# Altium schematic symbol library Driver_FET.SchLib: 216 symbols (part 1 of 3)
Pins are listed as number, name and electrical type; pins without a type are passive.

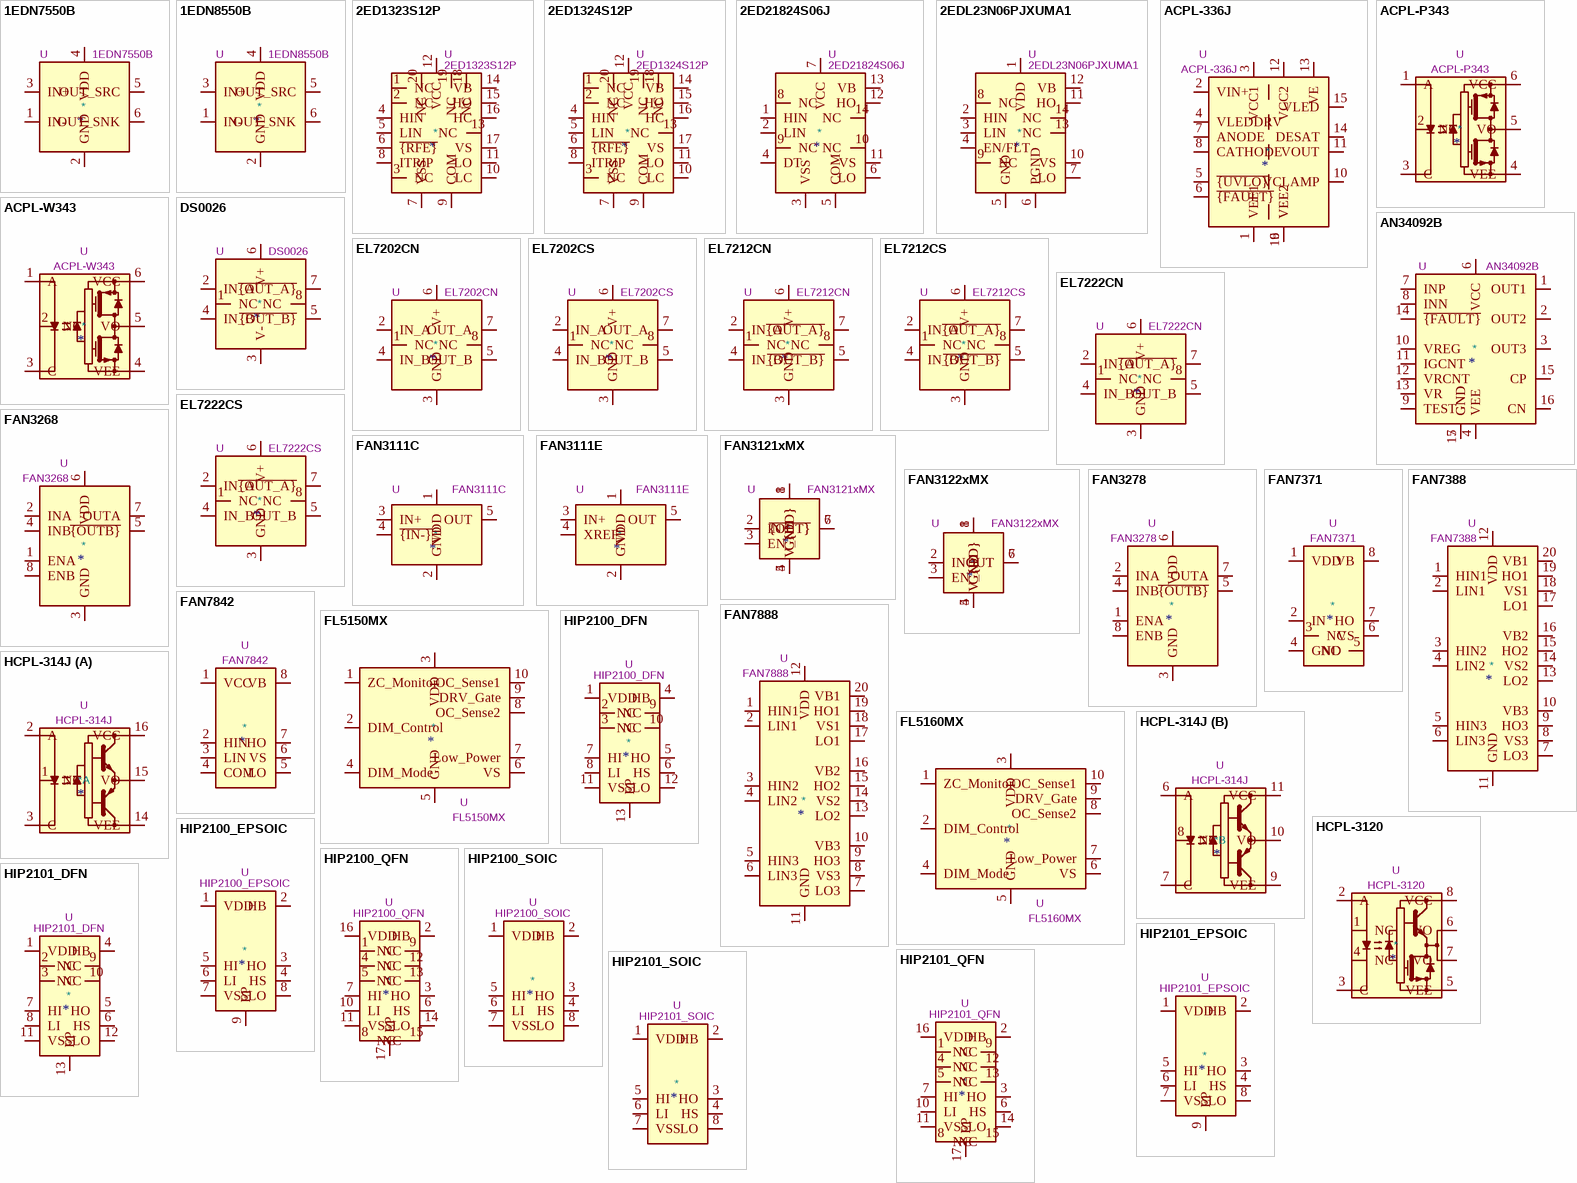
[diagram p0: symbols 1EDN7550B to HIP2101_SOIC]

## 1EDN7550B
designator *  value 1EDN7550B  Reference: U
Single-Channel EiceDRIVER With True Differential Inputs, 4V UVLO, +4/-8A, SOT-23-6; ki_keywords: Driver, Dual MOSFET; ki_fp_filters: SOT?23*; Footprint: Package_TO_SOT_SMD:SOT-23-6; Datasheet: https://www.infineon.com/dgdl/Infineon-1EDN7550B-DS-v02_00-EN.pdf?fileId=5546d46262b31d2e01635d9799ef264f; Description_: Single-Channel EiceDRIVER With True Differential Inputs, 4V UVLO, +4/-8A, SOT-23-6
pins: 1 IN-, 2 GND, 3 IN+, 4 VDD, 5 OUT_SRC, 6 OUT_SNK

## 1EDN8550B
designator *  value 1EDN8550B  Reference: U
Single-Channel EiceDRIVER With True Differential Inputs, 8V UVLO, +4/-8A, SOT-23-6; ki_keywords: Driver, Dual MOSFET; ki_fp_filters: SOT?23*; Footprint: Package_TO_SOT_SMD:SOT-23-6; Datasheet: https://www.infineon.com/dgdl/Infineon-1EDN7550B-DS-v02_00-EN.pdf?fileId=5546d46262b31d2e01635d9799ef264f; Description_: Single-Channel EiceDRIVER With True Differential Inputs, 8V UVLO, +4/-8A, SOT-23-6
pins: 1 IN-, 2 GND, 3 IN+, 4 VDD, 5 OUT_SRC, 6 OUT_SNK

## 2ED1323S12P
designator *  value 2ED1323S12P  Reference: U
1200V Half Bridge Gate Driver with active Miller clamp, OCP, SCC, Bootstrap Diode, ±2.3A drive current, PG-DSO-20-U03; ki_keywords: Gate Driver MOSFET IGBT SiC; ki_fp_filters: Infineon*PG?DSO?20?U03*7.5x12.8mm*; Footprint: Package_SO:Infineon_PG-DSO-20-U03_7.5x12.8mm; Datasheet: https://www.infineon.com/dgdl/Infineon-2ED1323S12P_2ED1324S12P-DataSheet-v01_01-EN.pdf?fileId=8ac78c8c869190210186e92f0f506d0c; Description_: 1200V Half Bridge Gate Driver with active Miller clamp, OCP, SCC, Bootstrap Diode, ±2.3A drive current, PG-DSO-20-U03
pins: 1 NC, 2 NC, 3 NC, 4 HIN, 5 LIN, 6 ~{{RFE}}, 7 VSS, 8 ITRIP, 9 COM, 10 LC, 11 LO, 12 VCC, 13 NC, 14 VB, 15 HO, 16 HC, 17 VS, 18 NC, 19 NC, 20 NC

## 2ED1324S12P
designator *  value 2ED1324S12P  Reference: U
1200V Half Bridge Gate Driver with active Miller clamp, OCP, SCC , 380ns integrated deadtime, Bootstrap Diode, ±2.3A drive current, PG-DSO-20-U03; ki_keywords: Gate Driver MOSFET IGBT SiC; ki_fp_filters: Infineon*PG?DSO?20?U03*7.5x12.8mm*; Footprint: Package_SO:Infineon_PG-DSO-20-U03_7.5x12.8mm; Datasheet: https://www.infineon.com/dgdl/Infineon-2ED1323S12P_2ED1324S12P-DataSheet-v01_01-EN.pdf?fileId=8ac78c8c869190210186e92f0f506d0c; Description_: 1200V Half Bridge Gate Driver with active Miller clamp, OCP, SCC , 380ns integrated deadtime, Bootstrap Diode, ±2.3A drive current, PG-DSO-20-U03
pins: 1 NC, 2 NC, 3 NC, 4 HIN, 5 LIN, 6 ~{{RFE}}, 7 VSS, 8 ITRIP, 9 COM, 10 LC, 11 LO, 12 VCC, 13 NC, 14 VB, 15 HO, 16 HC, 17 VS, 18 NC, 19 NC, 20 NC

## 2ED21824S06J
designator *  value 2ED21824S06J  Reference: U
650V Half Bridge Gate Driver with Integrated Bootstrap Diode, 2.5A drive current, SOIC-14; ki_keywords: Gate Driver MOSFET IGBT; ki_fp_filters: SOIC*3.9x8.7mm*P1.27mm*; Footprint: Package_SO:SOIC-14_3.9x8.7mm_P1.27mm; Datasheet: https://www.infineon.com/dgdl/Infineon-2ED2182-4-S06F-J-DataSheet-v02_10-EN.pdf?fileId=5546d4626cb27db2016cb8d7368a29e3; Description_: 650V Half Bridge Gate Driver with Integrated Bootstrap Diode, 2.5A drive current, SOIC-14
pins: 1 HIN, 2 LIN, 3 VSS, 4 DT, 5 COM, 6 LO, 7 VCC, 8 NC, 9 NC, 10 NC, 11 VS, 12 HO, 13 VB, 14 NC

## 2EDL23N06PJXUMA1
designator *  value 2EDL23N06PJXUMA1  Reference: U
600V Half Bridge Gate Driver with OCP and Integrated Bootstrap Diode, +1.8A/-2.5A drive current, SOIC-14; ki_keywords: Gate Driver MOSFET IGBT; ki_fp_filters: SOIC*3.9x8.7mm*P1.27mm*; Footprint: Package_SO:SOIC-14_3.9x8.7mm_P1.27mm; Datasheet: https://www.infineon.com/dgdl/Infineon-2EDL23x06xx-DS-v02_01-EN.pdf?fileId=5546d46146d18cb4014738a20c5236f0; Description_: 600V Half Bridge Gate Driver with OCP and Integrated Bootstrap Diode, +1.8A/-2.5A drive current, SOIC-14
pins: 1 VDD, 2 HIN, 3 LIN, 4 EN/FLT, 5 GND, 6 PGND, 7 LO, 8 NC, 9 NC, 10 VS, 11 HO, 12 VB, 13 NC, 14 NC

## ACPL-336J
designator *  value ACPL-336J  Reference: U
2.5A Gate Drive Optocoupler with Integrated LED Driver, Active Miller Clamp, DESAT Detection, and Fault & UVLO Status Feedback, SOIC-16; ki_keywords: Gate Driver IGBT; ki_fp_filters: SOIC*7.5x10.3*P1.27mm*; Footprint: Package_SO:SOIC-16W_7.5x10.3mm_P1.27mm; Datasheet: https://docs.broadcom.com/docs/AV02-4391EN; Description_: 2.5A Gate Drive Optocoupler with Integrated LED Driver, Active Miller Clamp, DESAT Detection, and Fault & UVLO Status Feedback, SOIC-16
pins: 1 VEE1, 2 VIN+, 3 VCC1, 4 VLEDDRV, 5 ~{{UVLO}}, 6 ~{{FAULT}}, 7 ANODE, 8 CATHODE, 9 VEE2, 10 VCLAMP, 11 VOUT, 12 VCC2, 13 VE, 14 DESAT, 15 VLED, 16 VEE2

## ACPL-P343
designator *  value ACPL-P343  Reference: U
Gate Drive Optocoupler, Output Current 4.0/4.0A, Propagation Delay 200ns, SSO-6; ki_keywords: MOSFET Driver IGBT Driver Optocoupler; ki_fp_filters: SSO*6.8x4.6mm*P1.27mm*Clearance7mm*; Footprint: Package_SO:SSO-6_6.8x4.6mm_P1.27mm_Clearance7mm; Datasheet: https://docs.broadcom.com/docs/AV02-2928EN; Description_: Gate Drive Optocoupler, Output Current 4.0/4.0A, Propagation Delay 200ns, SSO-6
pins: 1 A, 2 NC, 3 C, 4 VEE, 5 VO, 6 VCC

## ACPL-W343
designator *  value ACPL-W343  Reference: U
Gate Drive Optocoupler, Output Current 4.0/4.0A, Propagation Delay 200ns, SSO-6; ki_keywords: MOSFET Driver IGBT Driver Optocoupler; ki_fp_filters: SSO*6.8x4.6mm*P1.27mm*Clearance8mm*; Footprint: Package_SO:SSO-6_6.8x4.6mm_P1.27mm_Clearance8mm; Datasheet: http://www.avagotech.com/docs/AV02-2928EN; Description_: Gate Drive Optocoupler, Output Current 4.0/4.0A, Propagation Delay 200ns, SSO-6
pins: 1 A, 2 NC, 3 C, 4 VEE, 5 VO, 6 VCC

## AN34092B
designator *  value AN34092B  Reference: U
Single-Channel GaN-Tr High-Speed Gate Driver, Output Current 6.0A, 24V, -5V Negative Gate Voltage, HQFN-16; ki_keywords: GaN Gate Driver; ki_fp_filters: Panasonic*HQFN*1EP*4x4mm*P0.65mm*EP2.9x2.9mm*; Footprint: Package_DFN_QFN:Panasonic_HQFN-16-1EP_4x4mm_P0.65mm_EP2.9x2.9mm; Datasheet: https://industrial.panasonic.com/content/data/SC/ds/ds4/AN34092B_E.pdf; Description_: Single-Channel GaN-Tr High-Speed Gate Driver, Output Current 6.0A, 24V, -5V Negative Gate Voltage, HQFN-16
pins: 1 OUT1, 2 OUT2, 3 OUT3, 4 VEE, 5 GND, 6 VCC, 7 INP, 8 INN, 9 TEST, 10 VREG, 11 IGCNT, 12 VRCNT, 13 VR, 14 ~{{FAULT}}, 15 CP, 16 CN, 17 GND

## DS0026
designator *  value DS0026  Reference: U
Dual High-Speed MOS Driver, 10..20V supply voltage, 1.5A peak output current, TTL compatible inputs, DIP-8 / SOIC-8 / MSOP-8; ki_keywords: clock-driver clock-buffer Obsolete; ki_fp_filters: DIP?8?W7.62mm* *SOIC*3.9x4.9mm*P1.27mm* *MSOP*3x3mm*P0.65mm*; Datasheet: https://media.digikey.com/pdf/Data%20Sheets/National%20Semiconductor%20PDFs/DS0026.pdf; Description_: Dual High-Speed MOS Driver, 10..20V supply voltage, 1.5A peak output current, TTL compatible inputs, DIP-8 / SOIC-8 / MSOP-8
pins: 1 NC, 2 IN_A, 3 V-, 4 IN_B, 5 ~{{OUT_B}}, 6 V+, 7 ~{{OUT_A}}, 8 NC

## EL7202CN
designator *  value EL7202CN  Reference: U
High Speed, Dual Channel Power MOSFET Driver, 4.5..15V supply, I(PK)=2A, non-inverting drivers, DIP-8; ki_keywords: Intersil Renesas clock-driver clock-buffer Obsolete; ki_fp_filters: DIP?8?W7.62mm*; Footprint: Package_DIP:DIP-8_W7.62mm; Datasheet: https://www.mouser.com/catalog/specsheets/intersil_fn7282.pdf; Description_: High Speed, Dual Channel Power MOSFET Driver, 4.5..15V supply, I(PK)=2A, non-inverting drivers, DIP-8
pins: 1 NC, 2 IN_A, 3 GND, 4 IN_B, 5 OUT_B, 6 V+, 7 OUT_A, 8 NC

## EL7202CS
designator *  value EL7202CS  Reference: U
High Speed, Dual Channel Power MOSFET Driver, 4.5..15V supply, I(PK)=2A, non-inverting drivers, SOIC-8; ki_keywords: Intersil Renesas clock-driver clock-buffer; ki_fp_filters: *SOIC*3.9*4.*P1.27mm*; Footprint: Package_SO:SOIC-8_3.9x4.9mm_P1.27mm; Datasheet: https://www.mouser.com/catalog/specsheets/intersil_fn7282.pdf; Description_: High Speed, Dual Channel Power MOSFET Driver, 4.5..15V supply, I(PK)=2A, non-inverting drivers, SOIC-8
pins: 1 NC, 2 IN_A, 3 GND, 4 IN_B, 5 OUT_B, 6 V+, 7 OUT_A, 8 NC

## EL7212CN
designator *  value EL7212CN  Reference: U
High Speed, Dual Channel Power MOSFET Driver, 4.5..15V supply, I(PK)=2A, inverting drivers, DIP-8; ki_keywords: Intersil Renesas DS0026 clock-driver clock-buffer Obsolete; ki_fp_filters: DIP?8?W7.62mm*; Footprint: Package_DIP:DIP-8_W7.62mm; Datasheet: https://www.mouser.com/catalog/specsheets/intersil_fn7282.pdf; Description_: High Speed, Dual Channel Power MOSFET Driver, 4.5..15V supply, I(PK)=2A, inverting drivers, DIP-8
pins: 1 NC, 2 IN_A, 3 GND, 4 IN_B, 5 ~{{OUT_B}}, 6 V+, 7 ~{{OUT_A}}, 8 NC

## EL7212CS
designator *  value EL7212CS  Reference: U
High Speed, Dual Channel Power MOSFET Driver, 4.5..15V supply, I(PK)=2A, inverting drivers, SOIC-8; ki_keywords: Intersil Renesas DS0026 clock-driver clock-buffer; ki_fp_filters: *SOIC*3.9*4.*P1.27mm*; Footprint: Package_SO:SOIC-8_3.9x4.9mm_P1.27mm; Datasheet: https://www.mouser.com/catalog/specsheets/intersil_fn7282.pdf; Description_: High Speed, Dual Channel Power MOSFET Driver, 4.5..15V supply, I(PK)=2A, inverting drivers, SOIC-8
pins: 1 NC, 2 IN_A, 3 GND, 4 IN_B, 5 ~{{OUT_B}}, 6 V+, 7 ~{{OUT_A}}, 8 NC

## EL7222CN
designator *  value EL7222CN  Reference: U
High Speed, Dual Channel Power MOSFET Driver, 4.5..15V supply, I(PK)=2A, complementary drivers, DIP-8; ki_keywords: Intersil Renesas clock-driver clock-buffer Obsolete; ki_fp_filters: DIP?8?W7.62mm*; Footprint: Package_DIP:DIP-8_W7.62mm; Datasheet: https://www.mouser.com/catalog/specsheets/intersil_fn7282.pdf; Description_: High Speed, Dual Channel Power MOSFET Driver, 4.5..15V supply, I(PK)=2A, complementary drivers, DIP-8
pins: 1 NC, 2 IN_A, 3 GND, 4 IN_B, 5 OUT_B, 6 V+, 7 ~{{OUT_A}}, 8 NC

## EL7222CS
designator *  value EL7222CS  Reference: U
High Speed, Dual Channel Power MOSFET Driver, 4.5..15V supply, I(PK)=2A, complementary drivers, SOIC-8; ki_keywords: Intersil Renesas clock-driver clock-buffer; ki_fp_filters: *SOIC*3.9*4.*P1.27mm*; Footprint: Package_SO:SOIC-8_3.9x4.9mm_P1.27mm; Datasheet: https://www.mouser.com/catalog/specsheets/intersil_fn7282.pdf; Description_: High Speed, Dual Channel Power MOSFET Driver, 4.5..15V supply, I(PK)=2A, complementary drivers, SOIC-8
pins: 1 NC, 2 IN_A, 3 GND, 4 IN_B, 5 OUT_B, 6 V+, 7 ~{{OUT_A}}, 8 NC

## FAN3111C
designator *  value FAN3111C  Reference: U
High Speed Low Side MOSFET Gate Driver with CMOS inverting and non-inverting inputs, 4.5-18 V, 1.0 A, SOT-23-5; ki_fp_filters: SOT?23?5*; Footprint: Package_TO_SOT_SMD:SOT-23-5; Datasheet: https://www.onsemi.com/pdf/datasheet/fan3111c-d.pdf; Description_: High Speed Low Side MOSFET Gate Driver with CMOS inverting and non-inverting inputs, 4.5-18 V, 1.0 A, SOT-23-5; ki_keywords: MOSFET gate driver
pins: 1 VDD, 2 GND, 3 IN+, 4 ~{{IN-}}, 5 OUT

## FAN3111E
designator *  value FAN3111E  Reference: U
High Speed Low Side MOSFET Gate Driver with logic voltage reference input, 4.5-18 V, 1.0 A, SOT-23-5; ki_fp_filters: SOT?23?5*; Footprint: Package_TO_SOT_SMD:SOT-23-5; Datasheet: https://www.onsemi.com/pdf/datasheet/fan3111c-d.pdf; Description_: High Speed Low Side MOSFET Gate Driver with logic voltage reference input, 4.5-18 V, 1.0 A, SOT-23-5; ki_keywords: MOSFET gate driver
pins: 1 VDD, 2 GND, 3 IN+, 4 XREF, 5 OUT

## FAN3121xMX
designator *  value FAN3121xMX  Reference: U
High-speed low-side gate driver, single inverting output, 4.5..18V supply, 9.7A sink, 7.1A source, SOIC-8; ki_keywords: onsemi; ki_fp_filters: *SO*3.9x4.9mm*P1.27mm*; Footprint: Package_SO:SOIC-8_3.9x4.9mm_P1.27mm; Datasheet: https://www.onsemi.com/download/data-sheet/pdf/fan3121-d.pdf; Description_: High-speed low-side gate driver, single inverting output, 4.5..18V supply, 9.7A sink, 7.1A source, SOIC-8
pins: 1 V_{DD}, 2 IN, 3 EN, 4 GND, 5 GND, 6 ~{{OUT}}, 7 ~{{OUT}}, 8 V_{DD}

## FAN3122xMX
designator *  value FAN3122xMX  Reference: U
High-speed low-side gate driver, single non-inverting output, 4.5..18V supply, 9.7A sink, 7.1A source, SOIC-8; ki_keywords: onsemi; ki_fp_filters: *SO*3.9x4.9mm*P1.27mm*; Footprint: Package_SO:SOIC-8_3.9x4.9mm_P1.27mm; Datasheet: https://www.onsemi.com/download/data-sheet/pdf/fan3121-d.pdf; Description_: High-speed low-side gate driver, single non-inverting output, 4.5..18V supply, 9.7A sink, 7.1A source, SOIC-8
pins: 1 V_{DD}, 2 IN, 3 EN, 4 GND, 5 GND, 6 OUT, 7 OUT, 8 V_{DD}

## FAN3268
designator *  value FAN3268  Reference: U
Low-Voltage 18V PMOS-NMOS Bridge Driver, SOIC-8; ki_keywords: Driver MOSFET; ki_fp_filters: *SOIC*3.9x4.9mm*P1.27mm*; Footprint: Package_SO:SOIC-8_3.9x4.9mm_P1.27mm; Datasheet: http://www.onsemi.com/pub/Collateral/FAN3268T_F085-D.PDF; Description_: Low-Voltage 18V PMOS-NMOS Bridge Driver, SOIC-8
pins: 1 ENA, 2 INA, 3 GND, 4 INB, 5 ~{{OUTB}}, 6 VDD, 7 OUTA, 8 ENB

## FAN3278
designator *  value FAN3278  Reference: U
8-27V PMOS-NMOS Bridge Driver, SOIC-8; ki_keywords: Driver MOSFET; ki_fp_filters: *SOIC*3.9x4.9mm*P1.27mm*; Footprint: Package_SO:SOIC-8_3.9x4.9mm_P1.27mm; Datasheet: https://www.onsemi.com/pub/Collateral/FAN3278-D.pdf; Description_: 8-27V PMOS-NMOS Bridge Driver, SOIC-8
pins: 1 ENA, 2 INA, 3 GND, 4 INB, 5 ~{{OUTB}}, 6 VDD, 7 OUTA, 8 ENB

## FAN7371
designator *  value FAN7371  Reference: U
High-Current High-Side Gate Driver, 600V Vs, 4A Io, SOIC-8; ki_fp_filters: SOIC*3.9x4.9mm*P1.27mm*; Footprint: Package_SO:SOIC-8_3.9x4.9mm_P1.27mm; Datasheet: https://www.onsemi.com/pub/Collateral/FAN7371-D.pdf; Description_: High-Current High-Side Gate Driver, 600V Vs, 4A Io, SOIC-8; ki_keywords: high-side gate driver
pins: 1 VDD, 2 IN, 3 NC, 4 GND, 5 NC, 6 VS, 7 HO, 8 VB

## FAN7388
designator *  value FAN7388  Reference: U
3 Half-Bridge Gate-Drive IC, 600V operation, Output Current 350/650mA, SOIC-20; ki_keywords: 3 Phase Gate Driver; ki_fp_filters: SOIC*7.5x12.8*P1.27mm*; Footprint: Package_SO:SOIC-20W_7.5x12.8mm_P1.27mm; Datasheet: https://www.onsemi.com/pub/Collateral/FAN7388-D.pdf; Description_: 3 Half-Bridge Gate-Drive IC, 600V operation, Output Current 350/650mA, SOIC-20
pins: 1 HIN1, 2 LIN1, 3 HIN2, 4 LIN2, 5 HIN3, 6 LIN3, 7 LO3, 8 VS3, 9 HO3, 10 VB3, 11 GND, 12 VDD, 13 LO2, 14 VS2, 15 HO2, 16 VB2, 17 LO1, 18 VS1, 19 HO1, 20 VB1

## FAN7842
designator *  value FAN7842  Reference: U
High and Low Side Gate Driver, 200V operation, Output Current 350/650mA, SOIC-8; ki_fp_filters: SOIC*3.9x4.9mm*P1.27mm*; Footprint: Package_SO:SOIC-8_3.9x4.9mm_P1.27mm; Datasheet: http://www.onsemi.com/pub/Collateral/FAN7842-D.pdf; Description_: High and Low Side Gate Driver, 200V operation, Output Current 350/650mA, SOIC-8; ki_keywords: Gate Driver
pins: 1 VCC, 2 HIN, 3 LIN, 4 COM, 5 LO, 6 VS, 7 HO, 8 VB

## FAN7888
designator *  value FAN7888  Reference: U
3 Half-Bridge Gate-Drive IC, 200V operation, Output Current 350/650mA, SOIC-20; ki_keywords: 3 Phase Gate Driver; ki_fp_filters: SOIC*7.5x12.8*P1.27mm*; Footprint: Package_SO:SOIC-20W_7.5x12.8mm_P1.27mm; Datasheet: http://www.onsemi.com/pub/Collateral/FAN7888-D.pdf; Description_: 3 Half-Bridge Gate-Drive IC, 200V operation, Output Current 350/650mA, SOIC-20
pins: 1 HIN1, 2 LIN1, 3 HIN2, 4 LIN2, 5 HIN3, 6 LIN3, 7 LO3, 8 VS3, 9 HO3, 10 VB3, 11 GND, 12 VDD, 13 LO2, 14 VS2, 15 HO2, 16 VB2, 17 LO1, 18 VS1, 19 HO1, 20 VB1

## FL5150MX
designator *  value FL5150MX  Reference: U
IGBT and MOSFET, AC Phase Cut, Dimmer Controller, SSOP-10; ki_fp_filters: SSOP?10?3.9x4.9mm*1.00mm*; Footprint: Package_SO:SSOP-10_3.9x4.9mm_P1.00mm; Datasheet: https://www.onsemi.com/pub/Collateral/FL5150-D.pdf; Description_: IGBT and MOSFET, AC Phase Cut, Dimmer Controller, SSOP-10; ki_keywords: dimmer
pins: 1 ZC_Monitor, 2 DIM_Control, 3 VDD, 4 DIM_Mode, 5 GND, 6 VS, 7 Low_Power, 8 OC_Sense2, 9 DRV_Gate, 10 OC_Sense1

## FL5160MX
designator *  value FL5160MX  Reference: U
IGBT and MOSFET, AC Phase Cut, Dimmer Controller, SSOP-10; ki_fp_filters: SSOP?10?3.9x4.9mm*1.00mm*; Footprint: Package_SO:SSOP-10_3.9x4.9mm_P1.00mm; Datasheet: https://www.onsemi.com/pub/Collateral/FL5150-D.pdf; Description_: IGBT and MOSFET, AC Phase Cut, Dimmer Controller, SSOP-10; ki_keywords: dimmer
pins: 1 ZC_Monitor, 2 DIM_Control, 3 VDD, 4 DIM_Mode, 5 GND, 6 VS, 7 Low_Power, 8 OC_Sense2, 9 DRV_Gate, 10 OC_Sense1

## HCPL-314J
designator *  value HCPL-314J  Reference: U
Gate Drive Optocoupler, Output Current 0.4/0.4A, SOIC-16(12); ki_keywords: MOSFET Driver IGBT Driver Optocoupler; ki_fp_filters: SOIC*16*12*7.5x10.3mm*P1.27mm*; Footprint: Package_SO:SOIC-16W-12_7.5x10.3mm_P1.27mm; Datasheet: https://docs.broadcom.com/docs/AV02-0169EN; Description_: Gate Drive Optocoupler, Output Current 0.4/0.4A, SOIC-16(12)
part A pins: 1 NC, 2 A, 3 C, 14 VEE, 15 VO, 16 VCC
part B pins: 6 A, 7 C, 8 NC, 9 VEE, 10 VO, 11 VCC

## HCPL-3120
designator *  value HCPL-3120  Reference: U
Gate Drive Optocoupler, Output Current 2.5/2.5A, PDIP-8; ki_keywords: MOSFET Driver IGBT Driver Optocoupler; ki_fp_filters: DIP*W7.62mm*; Footprint: Package_DIP:DIP-8_W7.62mm; Datasheet: https://docs.broadcom.com/docs/AV02-0161EN; Description_: Gate Drive Optocoupler, Output Current 2.5/2.5A, PDIP-8
pins: 1 NC, 2 A, 3 C, 4 NC, 5 VEE, 6 VO, 7 VO, 8 VCC

## HIP2100_DFN
designator *  value HIP2100_DFN  Reference: U
High Frequency Half Bridge Driver, Output Current 2.0A, 100V, DFN-8; ki_keywords: Half Bridge Gate Driver; ki_fp_filters: DFN*1EP*4x4mm*P0.5mm*; Footprint: Package_DFN_QFN:DFN-12-1EP_4x4mm_P0.5mm_EP2.66x3.38mm; Datasheet: http://www.intersil.com/content/dam/Intersil/documents/hip2/hip2100.pdf; Description_: High Frequency Half Bridge Driver, Output Current 2.0A, 100V, DFN-8
pins: 1 VDD, 2 NC, 3 NC, 4 HB, 5 HO, 6 HS, 7 HI, 8 LI, 9 NC, 10 NC, 11 VSS, 12 LO, 13 EP

## HIP2100_EPSOIC
designator *  value HIP2100_EPSOIC  Reference: U
High Frequency Half Bridge Driver, Output Current 2.0A, 100V, EPSOIC-8; ki_keywords: Half Bridge Gate Driver; ki_fp_filters: SOIC*1EP*3.9x4.9mm*P1.27mm*; Footprint: Package_SO:SOIC-8-1EP_3.9x4.9mm_P1.27mm_EP2.514x3.2mm; Datasheet: http://www.intersil.com/content/dam/Intersil/documents/hip2/hip2100.pdf; Description_: High Frequency Half Bridge Driver, Output Current 2.0A, 100V, EPSOIC-8
pins: 1 VDD, 2 HB, 3 HO, 4 HS, 5 HI, 6 LI, 7 VSS, 8 LO, 9 EP

## HIP2100_QFN
designator *  value HIP2100_QFN  Reference: U
High Frequency Half Bridge Driver, Output Current 2.0A, 100V, QFN-16; ki_keywords: Half Bridge Gate Driver; ki_fp_filters: QFN*1EP*5x5mm*P0.8mm*; Footprint: Package_DFN_QFN:QFN-16-1EP_5x5mm_P0.8mm_EP2.7x2.7mm; Datasheet: http://www.intersil.com/content/dam/Intersil/documents/hip2/hip2100.pdf; Description_: High Frequency Half Bridge Driver, Output Current 2.0A, 100V, QFN-16
pins: 1 NC, 2 HB, 3 HO, 4 NC, 5 NC, 6 HS, 7 HI, 8 NC, 9 NC, 10 LI, 11 VSS, 12 NC, 13 NC, 14 LO, 15 NC, 16 VDD, 17 EP

## HIP2100_SOIC
designator *  value HIP2100_SOIC  Reference: U
High Frequency Half Bridge Driver, Output Current 2.0A, 100V, SOIC-8; ki_keywords: Half Bridge Gate Driver; ki_fp_filters: SOIC*3.9x4.9mm*P1.27mm*; Footprint: Package_SO:SOIC-8_3.9x4.9mm_P1.27mm; Datasheet: http://www.intersil.com/content/dam/Intersil/documents/hip2/hip2100.pdf; Description_: High Frequency Half Bridge Driver, Output Current 2.0A, 100V, SOIC-8
pins: 1 VDD, 2 HB, 3 HO, 4 HS, 5 HI, 6 LI, 7 VSS, 8 LO

## HIP2101_DFN
designator *  value HIP2101_DFN  Reference: U
High Frequency Half Bridge Driver, TTL/CMOS inputs, Output Current 2.0A, 100V, DFN-8; ki_keywords: Half Bridge Gate Driver; ki_fp_filters: DFN*1EP*4x4mm*P0.5mm*; Footprint: Package_DFN_QFN:DFN-12-1EP_4x4mm_P0.5mm_EP2.66x3.38mm; Datasheet: http://www.intersil.com/content/dam/Intersil/documents/hip2/hip2101.pdf; Description_: High Frequency Half Bridge Driver, TTL/CMOS inputs, Output Current 2.0A, 100V, DFN-8
pins: 1 VDD, 2 NC, 3 NC, 4 HB, 5 HO, 6 HS, 7 HI, 8 LI, 9 NC, 10 NC, 11 VSS, 12 LO, 13 EP

## HIP2101_EPSOIC
designator *  value HIP2101_EPSOIC  Reference: U
High Frequency Half Bridge Driver, TTL/CMOS inputs, Output Current 2.0A, 100V, EPSOIC-8; ki_keywords: Half Bridge Gate Driver; ki_fp_filters: SOIC*1EP*3.9x4.9mm*P1.27mm*; Footprint: Package_SO:SOIC-8-1EP_3.9x4.9mm_P1.27mm_EP2.514x3.2mm; Datasheet: http://www.intersil.com/content/dam/Intersil/documents/hip2/hip2101.pdf; Description_: High Frequency Half Bridge Driver, TTL/CMOS inputs, Output Current 2.0A, 100V, EPSOIC-8
pins: 1 VDD, 2 HB, 3 HO, 4 HS, 5 HI, 6 LI, 7 VSS, 8 LO, 9 EP

## HIP2101_QFN
designator *  value HIP2101_QFN  Reference: U
High Frequency Half Bridge Driver, TTL/CMOS inputs, Output Current 2.0A, 100V, QFN-16; ki_keywords: Half Bridge Gate Driver; ki_fp_filters: QFN*1EP*5x5mm*P0.8mm*; Footprint: Package_DFN_QFN:QFN-16-1EP_5x5mm_P0.8mm_EP2.7x2.7mm; Datasheet: http://www.intersil.com/content/dam/Intersil/documents/hip2/hip2101.pdf; Description_: High Frequency Half Bridge Driver, TTL/CMOS inputs, Output Current 2.0A, 100V, QFN-16
pins: 1 NC, 2 HB, 3 HO, 4 NC, 5 NC, 6 HS, 7 HI, 8 NC, 9 NC, 10 LI, 11 VSS, 12 NC, 13 NC, 14 LO, 15 NC, 16 VDD, 17 EP

## HIP2101_SOIC
designator *  value HIP2101_SOIC  Reference: U
High Frequency Half Bridge Driver, TTL/CMOS inputs, Output Current 2.0A, 100V, SOIC-8; ki_keywords: Half Bridge Gate Driver; ki_fp_filters: SOIC*3.9x4.9mm*P1.27mm*; Footprint: Package_SO:SOIC-8_3.9x4.9mm_P1.27mm; Datasheet: http://www.intersil.com/content/dam/Intersil/documents/hip2/hip2101.pdf; Description_: High Frequency Half Bridge Driver, TTL/CMOS inputs, Output Current 2.0A, 100V, SOIC-8
pins: 1 VDD, 2 HB, 3 HO, 4 HS, 5 HI, 6 LI, 7 VSS, 8 LO

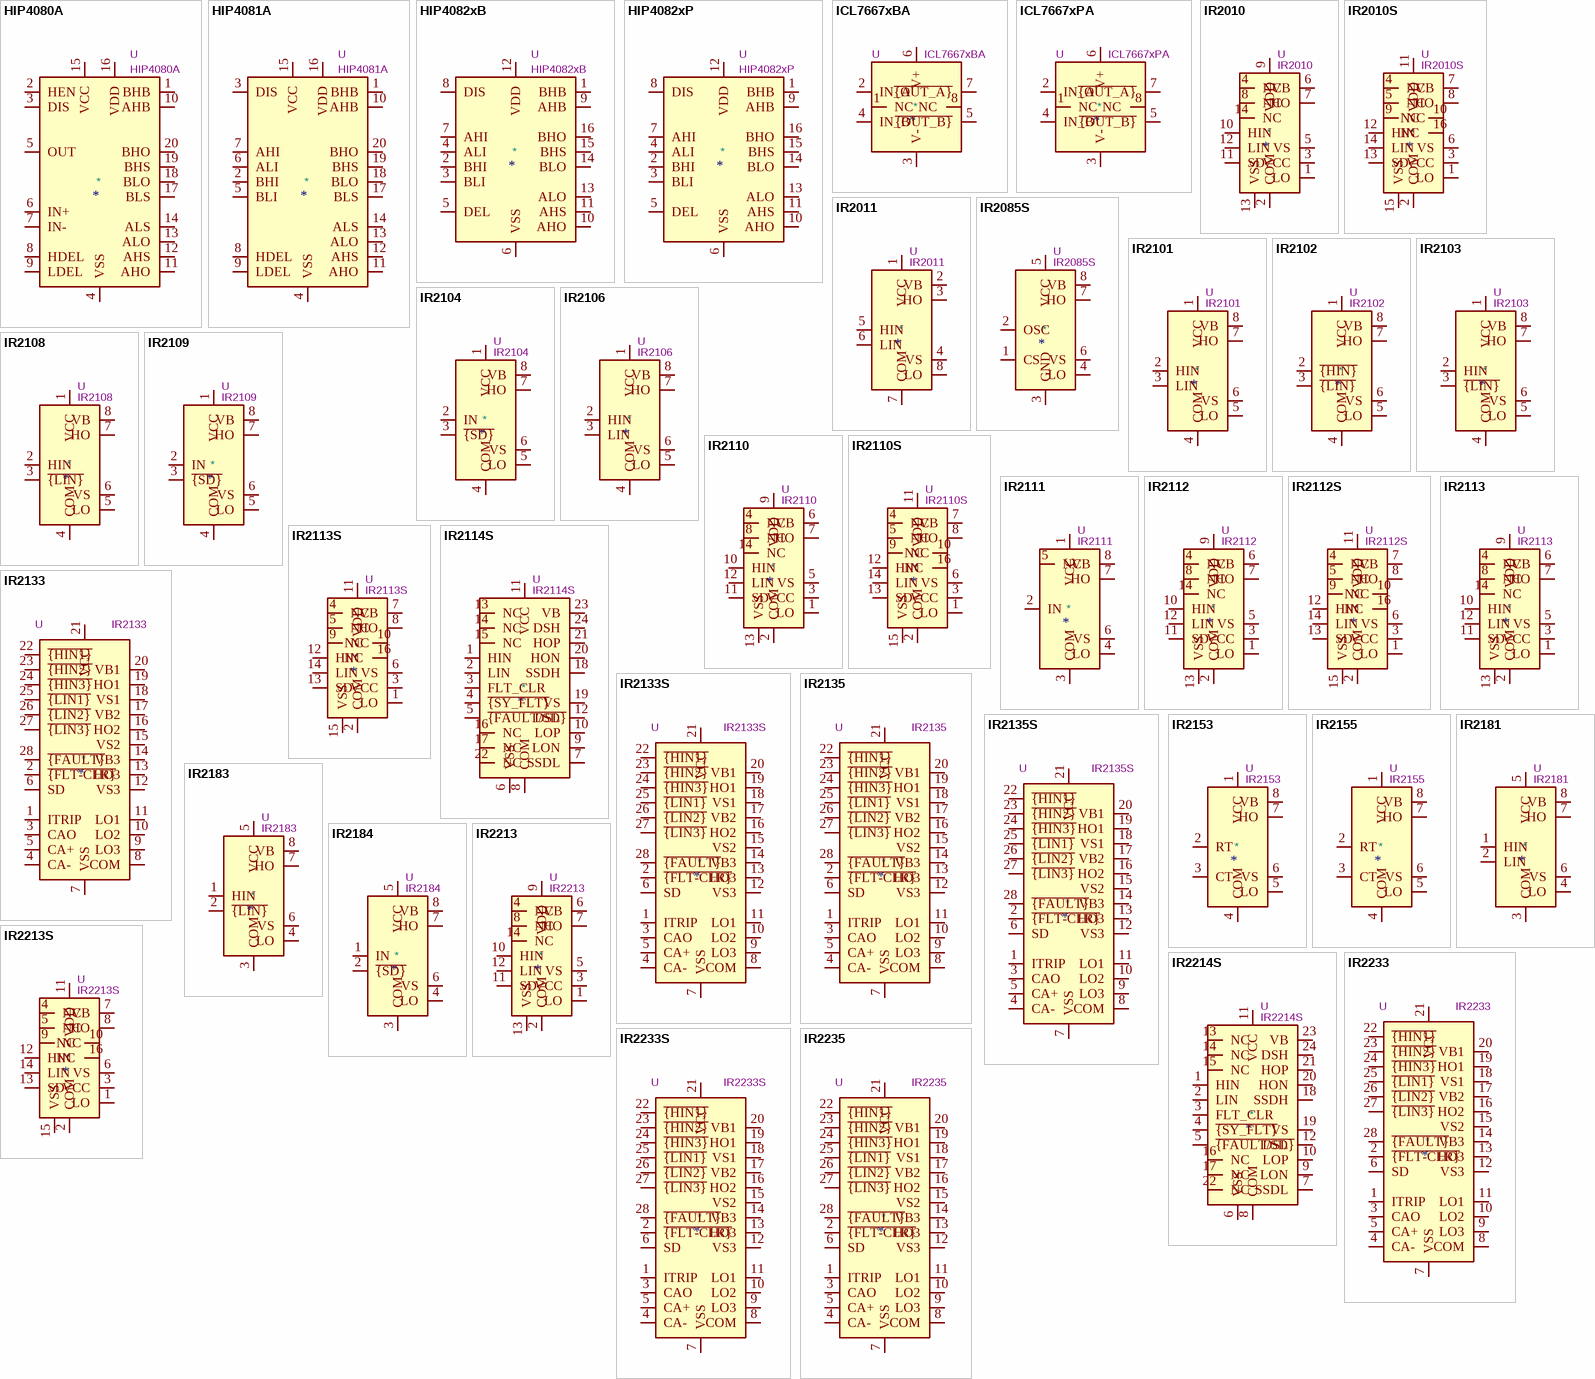
[diagram p1: symbols HIP4080A to IR2235]

## HIP4080A
designator *  value HIP4080A  Reference: U
High Frequency Full Bridge FET Driver, Input Comparator, 2.5A, 80V, DIP-20/SOIC-20; ki_keywords: Half Bridge Gate Driver; ki_fp_filters: SOIC*7.5x12.8mm*P1.27mm* DIP*W7.62mm*; Datasheet: http://www.intersil.com/content/dam/Intersil/documents/hip4/hip4080a.pdf; Description_: High Frequency Full Bridge FET Driver, Input Comparator, 2.5A, 80V, DIP-20/SOIC-20
pins: 1 BHB, 2 HEN, 3 DIS, 4 VSS, 5 OUT, 6 IN+, 7 IN-, 8 HDEL, 9 LDEL, 10 AHB, 11 AHO, 12 AHS, 13 ALO, 14 ALS, 15 VCC, 16 VDD, 17 BLS, 18 BLO, 19 BHS, 20 BHO

## HIP4081A
designator *  value HIP4081A  Reference: U
High Frequency Full Bridge FET Driver, 2.5A, 80V, DIP-20/SOIC-20; ki_keywords: Half Bridge Gate Driver; ki_fp_filters: SOIC*7.5x12.8mm*P1.27mm* DIP*W7.62mm*; Datasheet: http://www.intersil.com/content/dam/Intersil/documents/hip4/hip4080a.pdf; Description_: High Frequency Full Bridge FET Driver, 2.5A, 80V, DIP-20/SOIC-20
pins: 1 BHB, 2 BHI, 3 DIS, 4 VSS, 5 BLI, 6 ALI, 7 AHI, 8 HDEL, 9 LDEL, 10 AHB, 11 AHO, 12 AHS, 13 ALO, 14 ALS, 15 VCC, 16 VDD, 17 BLS, 18 BLO, 19 BHS, 20 BHO

## HIP4082xB
designator *  value HIP4082xB  Reference: U
80V, 1.25A Peak Current H-Bridge FET Driver, SOIC-16; ki_keywords: Driver H-bridge; ki_fp_filters: SOIC*3.9x9.9mm*P1.27mm*; Footprint: Package_SO:SOIC-16_3.9x9.9mm_P1.27mm; Datasheet: https://www.renesas.com/www/doc/datasheet/hip4082.pdf; Description_: 80V, 1.25A Peak Current H-Bridge FET Driver, SOIC-16
pins: 1 BHB, 2 BHI, 3 BLI, 4 ALI, 5 DEL, 6 VSS, 7 AHI, 8 DIS, 9 AHB, 10 AHO, 11 AHS, 12 VDD, 13 ALO, 14 BLO, 15 BHS, 16 BHO

## HIP4082xP
designator *  value HIP4082xP  Reference: U
80V, 1.25A Peak Current H-Bridge FET Driver, DIP-16; ki_keywords: Driver H-bridge; ki_fp_filters: DIP*W7.62mm*; Footprint: Package_DIP:DIP-16_W7.62mm; Datasheet: https://www.renesas.com/www/doc/datasheet/hip4082.pdf; Description_: 80V, 1.25A Peak Current H-Bridge FET Driver, DIP-16
pins: 1 BHB, 2 BHI, 3 BLI, 4 ALI, 5 DEL, 6 VSS, 7 AHI, 8 DIS, 9 AHB, 10 AHO, 11 AHS, 12 VDD, 13 ALO, 14 BLO, 15 BHS, 16 BHO

## ICL7667xBA
designator *  value ICL7667xBA  Reference: U
Dual Power MOSFET Driver, V+ = 4.5..15V, V- = -15..0V, TTL/CMOS compatible inputs, SOIC-8; ki_keywords: Intersil clock-driver clock-buffer DS0026 driver-array ICL7667CBAZA-T; ki_fp_filters: *SOIC*3.9x4.9mm*P1.27mm*; Footprint: Package_SO:SOIC-8_3.9x4.9mm_P1.27mm; Datasheet: https://www.renesas.com/en/document/dst/icl7667-datasheet; Description_: Dual Power MOSFET Driver, V+ = 4.5..15V, V- = -15..0V, TTL/CMOS compatible inputs, SOIC-8
pins: 1 NC, 2 IN_A, 3 V-, 4 IN_B, 5 ~{{OUT_B}}, 6 V+, 7 ~{{OUT_A}}, 8 NC

## ICL7667xPA
designator *  value ICL7667xPA  Reference: U
Dual Power MOSFET Driver, V+ = 4.5..15V, V- = -15..0V, TTL/CMOS compatible inputs, DIP-8; ki_keywords: Intersil clock-driver clock-buffer DS0026 driver-array ICL7667CPAZ; ki_fp_filters: DIP?8?W7.62mm*; Footprint: Package_DIP:DIP-8_W7.62mm; Datasheet: https://www.renesas.com/en/document/dst/icl7667-datasheet; Description_: Dual Power MOSFET Driver, V+ = 4.5..15V, V- = -15..0V, TTL/CMOS compatible inputs, DIP-8
pins: 1 NC, 2 IN_A, 3 V-, 4 IN_B, 5 ~{{OUT_B}}, 6 V+, 7 ~{{OUT_A}}, 8 NC

## IR2010
designator *  value IR2010  Reference: U
High and Low Side Driver, 200V, 3.0/3.0A, PDIP-14; ki_keywords: Gate Driver; ki_fp_filters: DIP*W7.62mm*; Footprint: Package_DIP:DIP-14_W7.62mm; Datasheet: https://www.infineon.com/dgdl/ir2010.pdf?fileId=5546d462533600a4015355c48f901660; Description_: High and Low Side Driver, 200V, 3.0/3.0A, PDIP-14
pins: 1 LO, 2 COM, 3 VCC, 4 NC, 5 VS, 6 VB, 7 HO, 8 NC, 9 VDD, 10 HIN, 11 SD, 12 LIN, 13 VSS, 14 NC

## IR2010S
designator *  value IR2010S  Reference: U
High and Low Side Driver, 200V, 3.0/3.0A, SOIC-16W; ki_keywords: Gate Driver; ki_fp_filters: SOIC*7.5x10.3mm*P1.27mm*; Footprint: Package_SO:SOIC-16W_7.5x10.3mm_P1.27mm; Datasheet: https://www.infineon.com/dgdl/ir2010.pdf?fileId=5546d462533600a4015355c48f901660; Description_: High and Low Side Driver, 200V, 3.0/3.0A, SOIC-16W
pins: 1 LO, 2 COM, 3 VCC, 4 NC, 5 NC, 6 VS, 7 VB, 8 HO, 9 NC, 10 NC, 11 VDD, 12 HIN, 13 SD, 14 LIN, 15 VSS, 16 NC

## IR2011
designator *  value IR2011  Reference: U
High and Low Side Driver, 200V, 1.0/1.0A, PDIP-8/SOIC-8; ki_keywords: Gate Driver; ki_fp_filters: SOIC*3.9x4.9mm*P1.27mm* DIP*W7.62mm*; Datasheet: https://www.infineon.com/dgdl/ir2011.pdf?fileId=5546d462533600a4015355c49b831663; Description_: High and Low Side Driver, 200V, 1.0/1.0A, PDIP-8/SOIC-8
pins: 1 VCC, 2 VB, 3 HO, 4 VS, 5 HIN, 6 LIN, 7 COM, 8 LO

## IR2085S
designator *  value IR2085S  Reference: U
High Speed, 100V, Self Oscillating 50% Duty Cycle, Half-Bridge Driver, 1.0/1.0A, SOIC-8; ki_keywords: Oscillating Gate Driver; ki_fp_filters: SOIC*3.9x4.9mm*P1.27mm*; Footprint: Package_SO:SOIC-8_3.9x4.9mm_P1.27mm; Datasheet: https://www.infineon.com/dgdl/Infineon-IR2085S-DS-v01_02-EN.pdf?fileId=5546d4625b62cd8a015bb0f752184828; Description_: High Speed, 100V, Self Oscillating 50% Duty Cycle, Half-Bridge Driver, 1.0/1.0A, SOIC-8
pins: 1 CS, 2 OSC, 3 GND, 4 LO, 5 VCC, 6 VS, 7 HO, 8 VB

## IR2101
designator *  value IR2101  Reference: U
High and Low Side Driver, 600V, 210/360mA, PDIP-8/SOIC-8; ki_keywords: Gate Driver; ki_fp_filters: SOIC*3.9x4.9mm*P1.27mm* DIP*W7.62mm*; Datasheet: https://www.infineon.com/dgdl/ir2101.pdf?fileId=5546d462533600a4015355c7a755166c; Description_: High and Low Side Driver, 600V, 210/360mA, PDIP-8/SOIC-8
pins: 1 VCC, 2 HIN, 3 LIN, 4 COM, 5 LO, 6 VS, 7 HO, 8 VB

## IR2102
designator *  value IR2102  Reference: U
High and Low Side Driver, 600V, 210/360mA, PDIP-8/SOIC-8; ki_keywords: Gate Driver; ki_fp_filters: SOIC*3.9x4.9mm*P1.27mm* DIP*W7.62mm*; Datasheet: https://www.infineon.com/dgdl/ir2101.pdf?fileId=5546d462533600a4015355c7a755166c; Description_: High and Low Side Driver, 600V, 210/360mA, PDIP-8/SOIC-8
pins: 1 VCC, 2 ~{{HIN}}, 3 ~{{LIN}}, 4 COM, 5 LO, 6 VS, 7 HO, 8 VB

## IR2103
designator *  value IR2103  Reference: U
Half-Bridge Driver, 600V, 210/360mA, PDIP-8/SOIC-8; ki_keywords: Gate Driver; ki_fp_filters: SOIC*3.9x4.9mm*P1.27mm* DIP*W7.62mm*; Datasheet: https://www.infineon.com/dgdl/ir2103.pdf?fileId=5546d462533600a4015355c7b54b166f; Description_: Half-Bridge Driver, 600V, 210/360mA, PDIP-8/SOIC-8
pins: 1 VCC, 2 HIN, 3 ~{{LIN}}, 4 COM, 5 LO, 6 VS, 7 HO, 8 VB

## IR2104
designator *  value IR2104  Reference: U
Half-Bridge Driver, 600V, 210/360mA, PDIP-8/SOIC-8; ki_keywords: Gate Driver; ki_fp_filters: SOIC*3.9x4.9mm*P1.27mm* DIP*W7.62mm*; Datasheet: https://www.infineon.com/dgdl/ir2104.pdf?fileId=5546d462533600a4015355c7c1c31671; Description_: Half-Bridge Driver, 600V, 210/360mA, PDIP-8/SOIC-8
pins: 1 VCC, 2 IN, 3 ~{{SD}}, 4 COM, 5 LO, 6 VS, 7 HO, 8 VB

## IR2106
designator *  value IR2106  Reference: U
High and Low Side Driver, 600V, 200/350mA, PDIP-8/SOIC-8; ki_keywords: Gate Driver; ki_fp_filters: SOIC*3.9x4.9mm*P1.27mm* DIP*W7.62mm*; Datasheet: https://www.infineon.com/dgdl/ir2106.pdf?fileId=5546d462533600a4015355c7cfc51673; Description_: High and Low Side Driver, 600V, 200/350mA, PDIP-8/SOIC-8
pins: 1 VCC, 2 HIN, 3 LIN, 4 COM, 5 LO, 6 VS, 7 HO, 8 VB

## IR2108
designator *  value IR2108  Reference: U
Half-Bridge Driver, 600V, 210/350mA, PDIP-8/SOIC-8; ki_keywords: Gate Driver; ki_fp_filters: SOIC*3.9x4.9mm*P1.27mm* DIP*W7.62mm*; Datasheet: https://www.infineon.com/dgdl/ir2108.pdf?fileId=5546d462533600a4015355c7dc321676; Description_: Half-Bridge Driver, 600V, 210/350mA, PDIP-8/SOIC-8
pins: 1 VCC, 2 HIN, 3 ~{{LIN}}, 4 COM, 5 LO, 6 VS, 7 HO, 8 VB

## IR2109
designator *  value IR2109  Reference: U
Half-Bridge Driver, 600V, 200/350mA, PDIP-8/SOIC-8; ki_keywords: Gate Driver; ki_fp_filters: SOIC*3.9x4.9mm*P1.27mm* DIP*W7.62mm*; Datasheet: https://www.infineon.com/dgdl/ir2109.pdf?fileId=5546d462533600a4015355c7e85b1679; Description_: Half-Bridge Driver, 600V, 200/350mA, PDIP-8/SOIC-8
pins: 1 VCC, 2 IN, 3 ~{{SD}}, 4 COM, 5 LO, 6 VS, 7 HO, 8 VB

## IR2110
designator *  value IR2110  Reference: U
High and Low Side Driver, 500V, 2.0/2.0A, PDIP-14; ki_keywords: Gate Driver; ki_fp_filters: DIP*W7.62mm*; Footprint: Package_DIP:DIP-14_W7.62mm; Datasheet: https://www.infineon.com/dgdl/ir2110.pdf?fileId=5546d462533600a4015355c80333167e; Description_: High and Low Side Driver, 500V, 2.0/2.0A, PDIP-14
pins: 1 LO, 2 COM, 3 VCC, 4 NC, 5 VS, 6 VB, 7 HO, 8 NC, 9 VDD, 10 HIN, 11 SD, 12 LIN, 13 VSS, 14 NC

## IR2110S
designator *  value IR2110S  Reference: U
High and Low Side Driver, 500V, 2.0/2.0A, SOIC-16W; ki_keywords: Gate Driver; ki_fp_filters: SOIC*7.5x10.3mm*P1.27mm*; Footprint: Package_SO:SOIC-16W_7.5x10.3mm_P1.27mm; Datasheet: https://www.infineon.com/dgdl/ir2110.pdf?fileId=5546d462533600a4015355c80333167e; Description_: High and Low Side Driver, 500V, 2.0/2.0A, SOIC-16W
pins: 1 LO, 2 COM, 3 VCC, 4 NC, 5 NC, 6 VS, 7 VB, 8 HO, 9 NC, 10 NC, 11 VDD, 12 HIN, 13 SD, 14 LIN, 15 VSS, 16 NC

## IR2111
designator *  value IR2111  Reference: U
Half-Bridge Driver, 600V, 250/500mA, PDIP-8/SOIC-8; ki_keywords: Gate Driver; ki_fp_filters: SOIC*3.9x4.9mm*P1.27mm* DIP*W7.62mm*; Datasheet: https://www.infineon.com/dgdl/ir2111.pdf?fileId=5546d462533600a4015355c810e51682; Description_: Half-Bridge Driver, 600V, 250/500mA, PDIP-8/SOIC-8
pins: 1 VCC, 2 IN, 3 COM, 4 LO, 5 NC, 6 VS, 7 HO, 8 VB

## IR2112
designator *  value IR2112  Reference: U
High and Low Side Driver, 600V, 250/500mA, PDIP-14; ki_keywords: Gate Driver; ki_fp_filters: DIP*W7.62mm*; Footprint: Package_DIP:DIP-14_W7.62mm; Datasheet: https://www.infineon.com/dgdl/ir2112.pdf?fileId=5546d462533600a4015355c81cb71685; Description_: High and Low Side Driver, 600V, 250/500mA, PDIP-14
pins: 1 LO, 2 COM, 3 VCC, 4 NC, 5 VS, 6 VB, 7 HO, 8 NC, 9 VDD, 10 HIN, 11 SD, 12 LIN, 13 VSS, 14 NC

## IR2112S
designator *  value IR2112S  Reference: U
High and Low Side Driver, 500V, 250/500mA, SOIC-16W; ki_keywords: Gate Driver; ki_fp_filters: SOIC*7.5x10.3mm*P1.27mm*; Footprint: Package_SO:SOIC-16W_7.5x10.3mm_P1.27mm; Datasheet: https://www.infineon.com/dgdl/ir2112.pdf?fileId=5546d462533600a4015355c81cb71685; Description_: High and Low Side Driver, 500V, 250/500mA, SOIC-16W
pins: 1 LO, 2 COM, 3 VCC, 4 NC, 5 NC, 6 VS, 7 VB, 8 HO, 9 NC, 10 NC, 11 VDD, 12 HIN, 13 SD, 14 LIN, 15 VSS, 16 NC

## IR2113
designator *  value IR2113  Reference: U
High and Low Side Driver, 600V, 2.0/2.0A, PDIP-14; ki_keywords: Gate Driver; ki_fp_filters: DIP*W7.62mm*; Footprint: Package_DIP:DIP-14_W7.62mm; Datasheet: https://www.infineon.com/dgdl/ir2110.pdf?fileId=5546d462533600a4015355c80333167e; Description_: High and Low Side Driver, 600V, 2.0/2.0A, PDIP-14
pins: 1 LO, 2 COM, 3 VCC, 4 NC, 5 VS, 6 VB, 7 HO, 8 NC, 9 VDD, 10 HIN, 11 SD, 12 LIN, 13 VSS, 14 NC

## IR2113S
designator *  value IR2113S  Reference: U
High and Low Side Driver, 500V, 2.0/2.0A, SOIC-16W; ki_keywords: Gate Driver; ki_fp_filters: SOIC*7.5x10.3mm*P1.27mm*; Footprint: Package_SO:SOIC-16W_7.5x10.3mm_P1.27mm; Datasheet: https://www.infineon.com/dgdl/ir2110.pdf?fileId=5546d462533600a4015355c80333167e; Description_: High and Low Side Driver, 500V, 2.0/2.0A, SOIC-16W
pins: 1 LO, 2 COM, 3 VCC, 4 NC, 5 NC, 6 VS, 7 VB, 8 HO, 9 NC, 10 NC, 11 VDD, 12 HIN, 13 SD, 14 LIN, 15 VSS, 16 NC

## IR2114S
designator *  value IR2114S  Reference: U
Half-Bridge Gate Driver IC, 600V, 1.0/1.5A, SSOP-24; ki_fp_filters: SSOP*5.3x8.2mm*P0.65mm*; Footprint: Package_SO:SSOP-24_5.3x8.2mm_P0.65mm; Datasheet: https://www.infineon.com/dgdl/ir2114ss.pdf?fileId=5546d462533600a4015355c836cd168a; Description_: Half-Bridge Gate Driver IC, 600V, 1.0/1.5A, SSOP-24; ki_keywords: Gate Driver
pins: 1 HIN, 2 LIN, 3 FLT_CLR, 4 ~{{SY_FLT}}, 5 ~{{FAULT/SD}}, 6 VSS, 7 SSDL, 8 COM, 9 LON, 10 LOP, 11 VCC, 12 DSL, 13 NC, 14 NC, 15 NC, 16 NC, 17 NC, 18 SSDH, 19 VS, 20 HON, 21 HOP, 22 NC, 23 VB, 24 DSH

## IR2133
designator *  value IR2133  Reference: U
600V, Vout 10-20V, PDIP-28; ki_keywords: 3 Phase Gate Driver; ki_fp_filters: DIP*W15.24mm*; Footprint: Package_DIP:DIP-28_W15.24mm; Datasheet: https://www.infineon.com/dgdl/Infineon-IR2x33-IR2x35-DataSheet-v01_00-EN.pdf?fileId=5546d462533600a4015355c890ba169f; Description_: 600V, Vout 10-20V, PDIP-28
pins: 1 ITRIP, 2 ~{{FLT-CLR}}, 3 CAO, 4 CA-, 5 CA+, 6 SD, 7 VSS, 8 COM, 9 LO3, 10 LO2, 11 LO1, 12 VS3, 13 HO3, 14 VB3, 15 VS2, 16 HO2, 17 VB2, 18 VS1, 19 HO1, 20 VB1, 21 VCC, 22 ~{{HIN1}}, 23 ~{{HIN2}}, 24 ~{{HIN3}}, 25 ~{{LIN1}}, 26 ~{{LIN2}}, 27 ~{{LIN3}}, 28 ~{{FAULT}}

## IR2133S
designator *  value IR2133S  Reference: U
600V, Vout 10-20V, SOIC-28; ki_keywords: 3 Phase Gate Driver; ki_fp_filters: SOIC*7.5x17.9mm*P1.27mm*; Footprint: Package_SO:SOIC-28W_7.5x17.9mm_P1.27mm; Datasheet: https://www.infineon.com/dgdl/Infineon-IR2x33-IR2x35-DataSheet-v01_00-EN.pdf?fileId=5546d462533600a4015355c890ba169f; Description_: 600V, Vout 10-20V, SOIC-28
pins: 1 ITRIP, 2 ~{{FLT-CLR}}, 3 CAO, 4 CA-, 5 CA+, 6 SD, 7 VSS, 8 COM, 9 LO3, 10 LO2, 11 LO1, 12 VS3, 13 HO3, 14 VB3, 15 VS2, 16 HO2, 17 VB2, 18 VS1, 19 HO1, 20 VB1, 21 VCC, 22 ~{{HIN1}}, 23 ~{{HIN2}}, 24 ~{{HIN3}}, 25 ~{{LIN1}}, 26 ~{{LIN2}}, 27 ~{{LIN3}}, 28 ~{{FAULT}}

## IR2135
designator *  value IR2135  Reference: U
600V, Vout 12-20V, PDIP-28; ki_keywords: 3 Phase Gate Driver; ki_fp_filters: DIP*W15.24mm*; Footprint: Package_DIP:DIP-28_W15.24mm; Datasheet: https://www.infineon.com/dgdl/Infineon-IR2x33-IR2x35-DataSheet-v01_00-EN.pdf?fileId=5546d462533600a4015355c890ba169f; Description_: 600V, Vout 12-20V, PDIP-28
pins: 1 ITRIP, 2 ~{{FLT-CLR}}, 3 CAO, 4 CA-, 5 CA+, 6 SD, 7 VSS, 8 COM, 9 LO3, 10 LO2, 11 LO1, 12 VS3, 13 HO3, 14 VB3, 15 VS2, 16 HO2, 17 VB2, 18 VS1, 19 HO1, 20 VB1, 21 VCC, 22 ~{{HIN1}}, 23 ~{{HIN2}}, 24 ~{{HIN3}}, 25 ~{{LIN1}}, 26 ~{{LIN2}}, 27 ~{{LIN3}}, 28 ~{{FAULT}}

## IR2135S
designator *  value IR2135S  Reference: U
600V, Vout 12-20V, SOIC-28; ki_keywords: 3 Phase Gate Driver; ki_fp_filters: SOIC*7.5x17.9mm*P1.27mm*; Footprint: Package_SO:SOIC-28W_7.5x17.9mm_P1.27mm; Datasheet: https://www.infineon.com/dgdl/Infineon-IR2x33-IR2x35-DataSheet-v01_00-EN.pdf?fileId=5546d462533600a4015355c890ba169f; Description_: 600V, Vout 12-20V, SOIC-28
pins: 1 ITRIP, 2 ~{{FLT-CLR}}, 3 CAO, 4 CA-, 5 CA+, 6 SD, 7 VSS, 8 COM, 9 LO3, 10 LO2, 11 LO1, 12 VS3, 13 HO3, 14 VB3, 15 VS2, 16 HO2, 17 VB2, 18 VS1, 19 HO1, 20 VB1, 21 VCC, 22 ~{{HIN1}}, 23 ~{{HIN2}}, 24 ~{{HIN3}}, 25 ~{{LIN1}}, 26 ~{{LIN2}}, 27 ~{{LIN3}}, 28 ~{{FAULT}}

## IR2153
designator *  value IR2153  Reference: U
Self-Oscillating Half-Bridge Driver, 600V, PDIP-8/SOIC-8; ki_keywords: Oscillating Gate Driver; ki_fp_filters: SOIC*3.9x4.9mm*P1.27mm* DIP*W7.62mm*; Datasheet: https://www.infineon.com/dgdl/ir2153.pdf?fileId=5546d462533600a4015355c8c5fc16af; Description_: Self-Oscillating Half-Bridge Driver, 600V, PDIP-8/SOIC-8
pins: 1 VCC, 2 RT, 3 CT, 4 COM, 5 LO, 6 VS, 7 HO, 8 VB

## IR2155
designator *  value IR2155  Reference: U
Self-Oscillating Half-Bridge Driver, 600V, 250/500mA, PDIP-8/SOIC-8; ki_keywords: Oscillating Gate Driver; ki_fp_filters: SOIC*3.9x4.9mm*P1.27mm* DIP*W7.62mm*; Datasheet: https://www.infineon.com/dgdl/ir2155.pdf?fileId=5546d462533600a4015355c8dec316b6; Description_: Self-Oscillating Half-Bridge Driver, 600V, 250/500mA, PDIP-8/SOIC-8
pins: 1 VCC, 2 RT, 3 CT, 4 COM, 5 LO, 6 VS, 7 HO, 8 VB

## IR2181
designator *  value IR2181  Reference: U
High and Low Side Driver, 600V, 1.4/1.8A, PDIP-8/SOIC-8; ki_keywords: Gate Driver; ki_fp_filters: SOIC*3.9x4.9mm*P1.27mm* DIP*W7.62mm*; Datasheet: https://www.infineon.com/dgdl/ir2181.pdf?fileId=5546d462533600a4015355c93cdd16ce; Description_: High and Low Side Driver, 600V, 1.4/1.8A, PDIP-8/SOIC-8
pins: 1 HIN, 2 LIN, 3 COM, 4 LO, 5 VCC, 6 VS, 7 HO, 8 VB

## IR2183
designator *  value IR2183  Reference: U
Half-Bridge Driver, 600V, 1.4/1.8A, PDIP-8/SOIC-8; ki_keywords: Gate Driver; ki_fp_filters: SOIC*3.9x4.9mm*P1.27mm* DIP*W7.62mm*; Datasheet: https://www.infineon.com/dgdl/ir2183.pdf?fileId=5546d462533600a4015355c9490e16d1; Description_: Half-Bridge Driver, 600V, 1.4/1.8A, PDIP-8/SOIC-8
pins: 1 HIN, 2 ~{{LIN}}, 3 COM, 4 LO, 5 VCC, 6 VS, 7 HO, 8 VB

## IR2184
designator *  value IR2184  Reference: U
Half-Bridge Driver, 600V, 1.4/1.8A, PDIP-8/SOIC-8; ki_keywords: Gate Driver; ki_fp_filters: SOIC*3.9x4.9mm*P1.27mm* DIP*W7.62mm*; Datasheet: https://www.infineon.com/dgdl/ir2184.pdf?fileId=5546d462533600a4015355c955e616d4; Description_: Half-Bridge Driver, 600V, 1.4/1.8A, PDIP-8/SOIC-8
pins: 1 IN, 2 ~{{SD}}, 3 COM, 4 LO, 5 VCC, 6 VS, 7 HO, 8 VB

## IR2213
designator *  value IR2213  Reference: U
High and Low Side Driver, 1200V, 1.7/2.0A, PDIP-14; ki_keywords: Gate Driver; ki_fp_filters: DIP*W7.62mm*; Footprint: Package_DIP:DIP-14_W7.62mm; Datasheet: https://www.infineon.com/dgdl/Infineon-IR2213-DS-v00_02-EN.pdf?fileId=5546d462533600a4015355c9621716d8; Description_: High and Low Side Driver, 1200V, 1.7/2.0A, PDIP-14
pins: 1 LO, 2 COM, 3 VCC, 4 NC, 5 VS, 6 VB, 7 HO, 8 NC, 9 VDD, 10 HIN, 11 SD, 12 LIN, 13 VSS, 14 NC

## IR2213S
designator *  value IR2213S  Reference: U
High and Low Side Driver, 1200V, 1.7/2.0A, SOIC-16W; ki_keywords: Gate Driver; ki_fp_filters: SOIC*7.5x10.3mm*P1.27mm*; Footprint: Package_SO:SOIC-16W_7.5x10.3mm_P1.27mm; Datasheet: https://www.infineon.com/dgdl/Infineon-IR2213-DS-v00_02-EN.pdf?fileId=5546d462533600a4015355c9621716d8; Description_: High and Low Side Driver, 1200V, 1.7/2.0A, SOIC-16W
pins: 1 LO, 2 COM, 3 VCC, 4 NC, 5 NC, 6 VS, 7 VB, 8 HO, 9 NC, 10 NC, 11 VDD, 12 HIN, 13 SD, 14 LIN, 15 VSS, 16 NC

## IR2214S
designator *  value IR2214S  Reference: U
Half-Bridge Gate Driver IC, 1200V, 1.0/1.5A, SSOP-24; ki_fp_filters: SSOP*5.3x8.2mm*P0.65mm*; Footprint: Package_SO:SSOP-24_5.3x8.2mm_P0.65mm; Datasheet: https://www.infineon.com/dgdl/ir2114ss.pdf?fileId=5546d462533600a4015355c836cd168a; Description_: Half-Bridge Gate Driver IC, 1200V, 1.0/1.5A, SSOP-24; ki_keywords: Gate Driver
pins: 1 HIN, 2 LIN, 3 FLT_CLR, 4 ~{{SY_FLT}}, 5 ~{{FAULT/SD}}, 6 VSS, 7 SSDL, 8 COM, 9 LON, 10 LOP, 11 VCC, 12 DSL, 13 NC, 14 NC, 15 NC, 16 NC, 17 NC, 18 SSDH, 19 VS, 20 HON, 21 HOP, 22 NC, 23 VB, 24 DSH

## IR2233
designator *  value IR2233  Reference: U
1200V, Vout 10-20V, PDIP-28; ki_keywords: 3 Phase Gate Driver; ki_fp_filters: DIP*W15.24mm*; Footprint: Package_DIP:DIP-28_W15.24mm; Datasheet: https://www.infineon.com/dgdl/Infineon-IR2x33-IR2x35-DataSheet-v01_00-EN.pdf?fileId=5546d462533600a4015355c890ba169f; Description_: 1200V, Vout 10-20V, PDIP-28
pins: 1 ITRIP, 2 ~{{FLT-CLR}}, 3 CAO, 4 CA-, 5 CA+, 6 SD, 7 VSS, 8 COM, 9 LO3, 10 LO2, 11 LO1, 12 VS3, 13 HO3, 14 VB3, 15 VS2, 16 HO2, 17 VB2, 18 VS1, 19 HO1, 20 VB1, 21 VCC, 22 ~{{HIN1}}, 23 ~{{HIN2}}, 24 ~{{HIN3}}, 25 ~{{LIN1}}, 26 ~{{LIN2}}, 27 ~{{LIN3}}, 28 ~{{FAULT}}

## IR2233S
designator *  value IR2233S  Reference: U
1200V, Vout 10-20V, SOIC-28; ki_keywords: 3 Phase Gate Driver; ki_fp_filters: SOIC*7.5x17.9mm*P1.27mm*; Footprint: Package_SO:SOIC-28W_7.5x17.9mm_P1.27mm; Datasheet: https://www.infineon.com/dgdl/Infineon-IR2x33-IR2x35-DataSheet-v01_00-EN.pdf?fileId=5546d462533600a4015355c890ba169f; Description_: 1200V, Vout 10-20V, SOIC-28
pins: 1 ITRIP, 2 ~{{FLT-CLR}}, 3 CAO, 4 CA-, 5 CA+, 6 SD, 7 VSS, 8 COM, 9 LO3, 10 LO2, 11 LO1, 12 VS3, 13 HO3, 14 VB3, 15 VS2, 16 HO2, 17 VB2, 18 VS1, 19 HO1, 20 VB1, 21 VCC, 22 ~{{HIN1}}, 23 ~{{HIN2}}, 24 ~{{HIN3}}, 25 ~{{LIN1}}, 26 ~{{LIN2}}, 27 ~{{LIN3}}, 28 ~{{FAULT}}

## IR2235
designator *  value IR2235  Reference: U
1200V, Vout 12-20V, PDIP-28; ki_keywords: 3 Phase Gate Driver; ki_fp_filters: DIP*W15.24mm*; Footprint: Package_DIP:DIP-28_W15.24mm; Datasheet: https://www.infineon.com/dgdl/Infineon-IR2x33-IR2x35-DataSheet-v01_00-EN.pdf?fileId=5546d462533600a4015355c890ba169f; Description_: 1200V, Vout 12-20V, PDIP-28
pins: 1 ITRIP, 2 ~{{FLT-CLR}}, 3 CAO, 4 CA-, 5 CA+, 6 SD, 7 VSS, 8 COM, 9 LO3, 10 LO2, 11 LO1, 12 VS3, 13 HO3, 14 VB3, 15 VS2, 16 HO2, 17 VB2, 18 VS1, 19 HO1, 20 VB1, 21 VCC, 22 ~{{HIN1}}, 23 ~{{HIN2}}, 24 ~{{HIN3}}, 25 ~{{LIN1}}, 26 ~{{LIN2}}, 27 ~{{LIN3}}, 28 ~{{FAULT}}

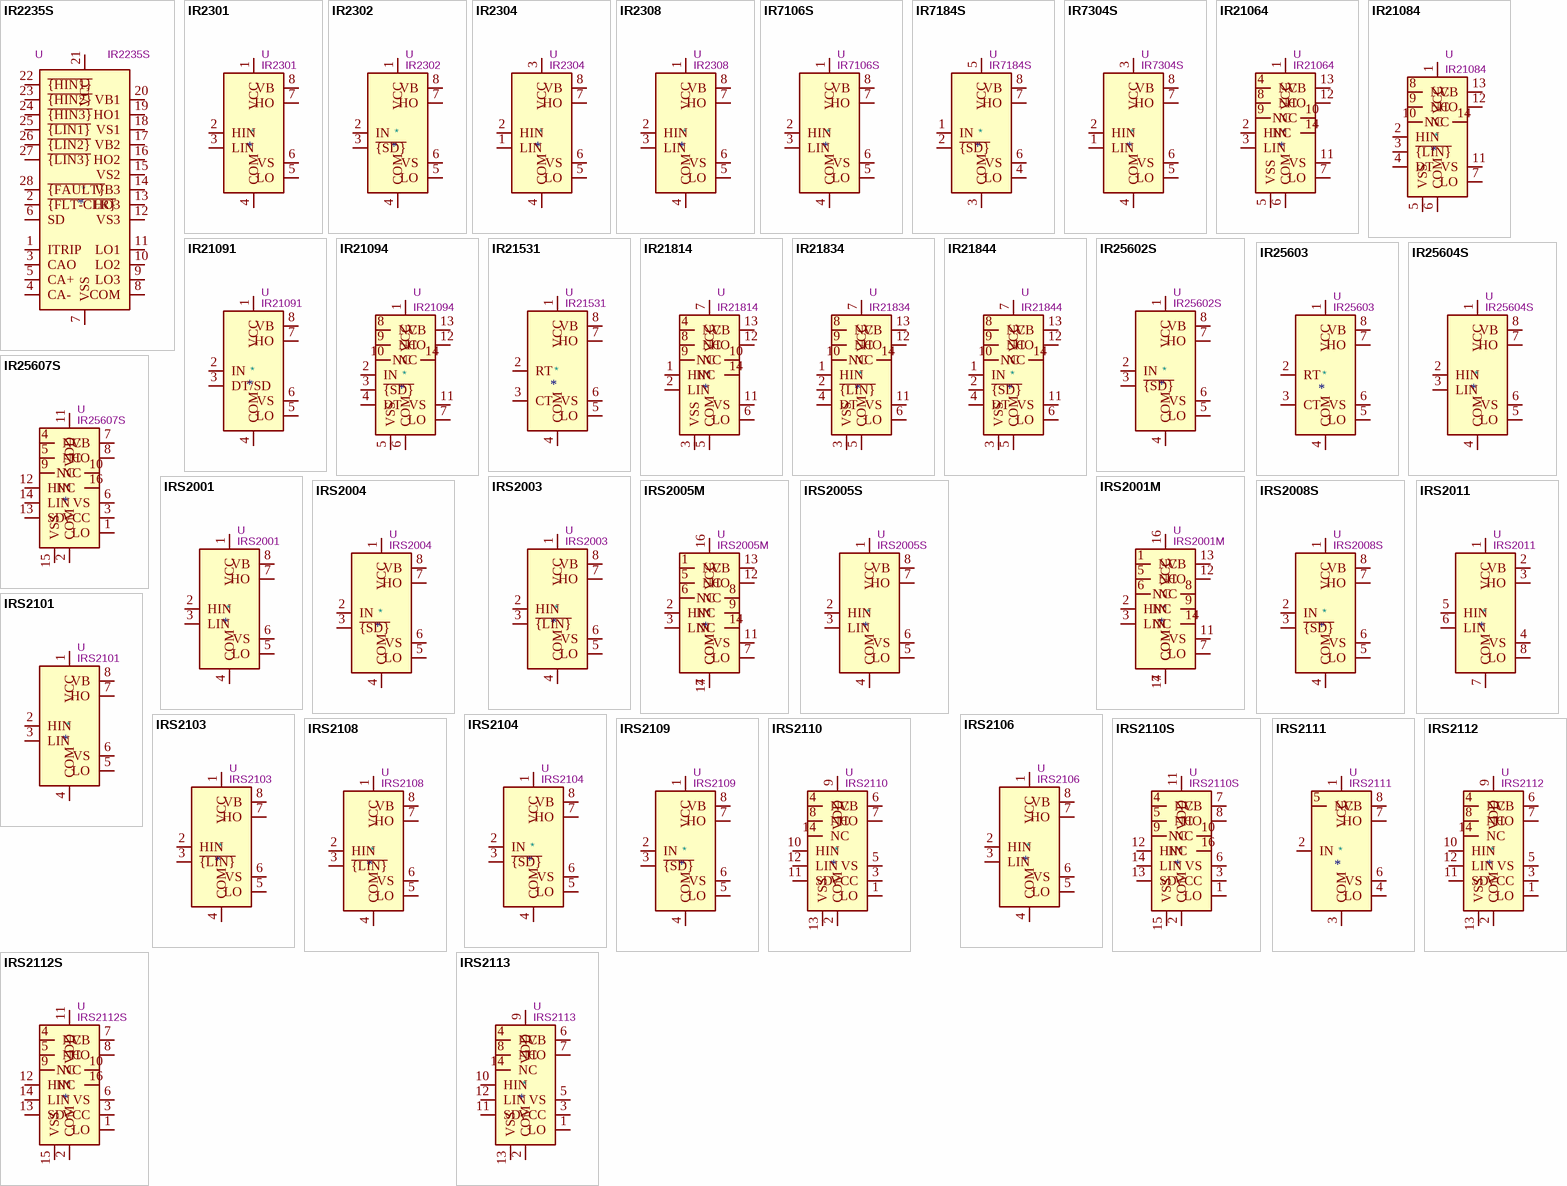
[diagram p2: symbols IR2235S to IRS2113]

## IR2235S
designator *  value IR2235S  Reference: U
1200V, Vout 12-20V, SOIC-28; ki_keywords: 3 Phase Gate Driver; ki_fp_filters: SOIC*7.5x17.9mm*P1.27mm*; Footprint: Package_SO:SOIC-28W_7.5x17.9mm_P1.27mm; Datasheet: https://www.infineon.com/dgdl/Infineon-IR2x33-IR2x35-DataSheet-v01_00-EN.pdf?fileId=5546d462533600a4015355c890ba169f; Description_: 1200V, Vout 12-20V, SOIC-28
pins: 1 ITRIP, 2 ~{{FLT-CLR}}, 3 CAO, 4 CA-, 5 CA+, 6 SD, 7 VSS, 8 COM, 9 LO3, 10 LO2, 11 LO1, 12 VS3, 13 HO3, 14 VB3, 15 VS2, 16 HO2, 17 VB2, 18 VS1, 19 HO1, 20 VB1, 21 VCC, 22 ~{{HIN1}}, 23 ~{{HIN2}}, 24 ~{{HIN3}}, 25 ~{{LIN1}}, 26 ~{{LIN2}}, 27 ~{{LIN3}}, 28 ~{{FAULT}}

## IR2301
designator *  value IR2301  Reference: U
High and Low Side Driver, 600V, 200/350mA, PDIP-8/SOIC-8; ki_keywords: Gate Driver; ki_fp_filters: SOIC*3.9x4.9mm*P1.27mm* DIP*W7.62mm*; Datasheet: https://www.infineon.com/dgdl/ir2301.pdf?fileId=5546d462533600a4015355c97bb216dc; Description_: High and Low Side Driver, 600V, 200/350mA, PDIP-8/SOIC-8
pins: 1 VCC, 2 HIN, 3 LIN, 4 COM, 5 LO, 6 VS, 7 HO, 8 VB

## IR2302
designator *  value IR2302  Reference: U
Half-Bridge Driver, 600V, 200/350mA, PDIP-8/SOIC-8; ki_keywords: Gate Driver; ki_fp_filters: SOIC*3.9x4.9mm*P1.27mm* DIP*W7.62mm*; Datasheet: https://www.infineon.com/dgdl/ir2302.pdf?fileId=5546d462533600a4015355c988b216de; Description_: Half-Bridge Driver, 600V, 200/350mA, PDIP-8/SOIC-8
pins: 1 VCC, 2 IN, 3 ~{{SD}}, 4 COM, 5 LO, 6 VS, 7 HO, 8 VB

## IR2304
designator *  value IR2304  Reference: U
Half-Bridge Driver, 600V, 60/130mA, PDIP-8/SOIC-8; ki_keywords: Gate Driver; ki_fp_filters: SOIC*3.9x4.9mm*P1.27mm* DIP*W7.62mm*; Datasheet: https://www.infineon.com/dgdl/ir2304.pdf?fileId=5546d462533600a4015355c9954a16e0; Description_: Half-Bridge Driver, 600V, 60/130mA, PDIP-8/SOIC-8
pins: 1 LIN, 2 HIN, 3 VCC, 4 COM, 5 LO, 6 VS, 7 HO, 8 VB

## IR2308
designator *  value IR2308  Reference: U
Half-Bridge Driver, 600V, 200/350mA, PDIP-8/SOIC-8; ki_keywords: Gate Driver; ki_fp_filters: SOIC*3.9x4.9mm*P1.27mm* DIP*W7.62mm*; Datasheet: https://www.infineon.com/dgdl/ir2308.pdf?fileId=5546d462533600a4015355c9a2b816e2; Description_: Half-Bridge Driver, 600V, 200/350mA, PDIP-8/SOIC-8
pins: 1 VCC, 2 HIN, 3 LIN, 4 COM, 5 LO, 6 VS, 7 HO, 8 VB

## IR7106S
designator *  value IR7106S  Reference: U
High and Low Side Driver, 700V, 200/350mA, SOIC-8; ki_keywords: Gate Driver; ki_fp_filters: SOIC*3.9x4.9mm*P1.27mm*; Footprint: Package_SO:SOIC-8_3.9x4.9mm_P1.27mm; Datasheet: https://www.infineon.com/dgdl/ir7106s.pdf?fileId=5546d462533600a4015355d61a06182a; Description_: High and Low Side Driver, 700V, 200/350mA, SOIC-8
pins: 1 VCC, 2 HIN, 3 LIN, 4 COM, 5 LO, 6 VS, 7 HO, 8 VB

## IR7184S
designator *  value IR7184S  Reference: U
700V Half-Bridge Driver, 1.9/2.3A, SOIC-8; ki_keywords: Gate Driver; ki_fp_filters: SOIC*3.9x4.9mm*P1.27mm*; Footprint: Package_SO:SOIC-8_3.9x4.9mm_P1.27mm; Datasheet: https://www.infineon.com/dgdl/ir7184s.pdf?fileId=5546d462533600a4015355d62230182c; Description_: 700V Half-Bridge Driver, 1.9/2.3A, SOIC-8
pins: 1 IN, 2 ~{{SD}}, 3 COM, 4 LO, 5 VCC, 6 VS, 7 HO, 8 VB

## IR7304S
designator *  value IR7304S  Reference: U
700V Half-Bridge Driver, 60/130mA, SOIC-8; ki_keywords: Gate Driver; ki_fp_filters: SOIC*3.9x4.9mm*P1.27mm*; Footprint: Package_SO:SOIC-8_3.9x4.9mm_P1.27mm; Datasheet: https://www.infineon.com/dgdl/ir7304s.pdf?fileId=5546d462533600a4015355d62a63182e; Description_: 700V Half-Bridge Driver, 60/130mA, SOIC-8
pins: 1 LIN, 2 HIN, 3 VCC, 4 COM, 5 LO, 6 VS, 7 HO, 8 VB

## IR21064
designator *  value IR21064  Reference: U
High and Low Side Driver, 600V, 200/350mA, PDIP-14/SOIC-14; ki_keywords: Gate Driver; ki_fp_filters: SOIC*3.9x8.7mm*P1.27mm* DIP*W7.62mm*; Datasheet: https://www.infineon.com/dgdl/ir2106.pdf?fileId=5546d462533600a4015355c7cfc51673; Description_: High and Low Side Driver, 600V, 200/350mA, PDIP-14/SOIC-14
pins: 1 VCC, 2 HIN, 3 LIN, 4 NC, 5 VSS, 6 COM, 7 LO, 8 NC, 9 NC, 10 NC, 11 VS, 12 HO, 13 VB, 14 NC

## IR21084
designator *  value IR21084  Reference: U
Half-Bridge Driver, 600V, 210/350mA, PDIP-14/SOIC-14; ki_keywords: Gate Driver; ki_fp_filters: SOIC*3.9x8.7mm*P1.27mm* DIP*W7.62mm*; Datasheet: https://www.infineon.com/dgdl/ir2108.pdf?fileId=5546d462533600a4015355c7dc321676; Description_: Half-Bridge Driver, 600V, 210/350mA, PDIP-14/SOIC-14
pins: 1 VCC, 2 HIN, 3 ~{{LIN}}, 4 DT, 5 VSS, 6 COM, 7 LO, 8 NC, 9 NC, 10 NC, 11 VS, 12 HO, 13 VB, 14 NC

## IR21091
designator *  value IR21091  Reference: U
Half-Bridge Driver, 600V, 200/350mA, PDIP-8/SOIC-8; ki_keywords: Gate Driver; ki_fp_filters: SOIC*3.9x4.9mm*P1.27mm* DIP*W7.62mm*; Datasheet: https://www.infineon.com/dgdl/ir21091.pdf?fileId=5546d462533600a4015355c7f66f167c; Description_: Half-Bridge Driver, 600V, 200/350mA, PDIP-8/SOIC-8
pins: 1 VCC, 2 IN, 3 DT/SD, 4 COM, 5 LO, 6 VS, 7 HO, 8 VB

## IR21094
designator *  value IR21094  Reference: U
Half-Bridge Driver, 600V, 200/350mA, PDIP-14/SOIC-14; ki_keywords: Gate Driver; ki_fp_filters: SOIC*3.9x8.7mm*P1.27mm* DIP*W7.62mm*; Datasheet: https://www.infineon.com/dgdl/ir2109.pdf?fileId=5546d462533600a4015355c7e85b1679; Description_: Half-Bridge Driver, 600V, 200/350mA, PDIP-14/SOIC-14
pins: 1 VCC, 2 IN, 3 ~{{SD}}, 4 DT, 5 VSS, 6 COM, 7 LO, 8 NC, 9 NC, 10 NC, 11 VS, 12 HO, 13 VB, 14 NC

## IR21531
designator *  value IR21531  Reference: U
Self-Oscillating Half-Bridge Driver, 600V, PDIP-8/SOIC-8; ki_keywords: Oscillating Gate Driver; ki_fp_filters: SOIC*3.9x4.9mm*P1.27mm* DIP*W7.62mm*; Datasheet: https://www.infineon.com/dgdl/ir21531.pdf?fileId=5546d462533600a4015355c8d26316b3; Description_: Self-Oscillating Half-Bridge Driver, 600V, PDIP-8/SOIC-8
pins: 1 VCC, 2 RT, 3 CT, 4 COM, 5 LO, 6 VS, 7 HO, 8 VB

## IR21814
designator *  value IR21814  Reference: U
High and Low Side Driver, 600V, 1.4/1.8A, PDIP-14/SOIC-14; ki_keywords: Gate Driver; ki_fp_filters: SOIC*3.9x8.7mm*P1.27mm* DIP*W7.62mm*; Datasheet: https://www.infineon.com/dgdl/ir2181.pdf?fileId=5546d462533600a4015355c93cdd16ce; Description_: High and Low Side Driver, 600V, 1.4/1.8A, PDIP-14/SOIC-14
pins: 1 HIN, 2 LIN, 3 VSS, 4 NC, 5 COM, 6 LO, 7 VCC, 8 NC, 9 NC, 10 NC, 11 VS, 12 HO, 13 VB, 14 NC

## IR21834
designator *  value IR21834  Reference: U
Half-Bridge Driver, 600V, 1.4/1.8A, PDIP-14/SOIC-14; ki_keywords: Gate Driver; ki_fp_filters: SOIC*3.9x8.7mm*P1.27mm* DIP*W7.62mm*; Datasheet: https://www.infineon.com/dgdl/ir2183.pdf?fileId=5546d462533600a4015355c9490e16d1; Description_: Half-Bridge Driver, 600V, 1.4/1.8A, PDIP-14/SOIC-14
pins: 1 HIN, 2 ~{{LIN}}, 3 VSS, 4 DT, 5 COM, 6 LO, 7 VCC, 8 NC, 9 NC, 10 NC, 11 VS, 12 HO, 13 VB, 14 NC

## IR21844
designator *  value IR21844  Reference: U
Half-Bridge Driver, 600V, 1.4/1.8A, PDIP-14/SOIC-14; ki_keywords: Gate Driver; ki_fp_filters: SOIC*3.9x8.7mm*P1.27mm* DIP*W7.62mm*; Datasheet: https://www.infineon.com/dgdl/ir2184.pdf?fileId=5546d462533600a4015355c955e616d4; Description_: Half-Bridge Driver, 600V, 1.4/1.8A, PDIP-14/SOIC-14
pins: 1 IN, 2 ~{{SD}}, 3 VSS, 4 DT, 5 COM, 6 LO, 7 VCC, 8 NC, 9 NC, 10 NC, 11 VS, 12 HO, 13 VB, 14 NC

## IR25602S
designator *  value IR25602S  Reference: U
Half-Bridge Driver, 600V, 210/360mA, PDIP-8/SOIC-8; ki_keywords: Gate Driver; ki_fp_filters: SOIC*3.9x4.9mm*P1.27mm*; Footprint: Package_SO:SOIC-8_3.9x4.9mm_P1.27mm; Datasheet: https://www.infineon.com/dgdl/ir25602.pdf?fileId=5546d462533600a4015355c9d6c216eb; Description_: Half-Bridge Driver, 600V, 210/360mA, PDIP-8/SOIC-8
pins: 1 VCC, 2 IN, 3 ~{{SD}}, 4 COM, 5 LO, 6 VS, 7 HO, 8 VB

## IR25603
designator *  value IR25603  Reference: U
Self-Oscillating Half-Bridge Driver, 600V, 180/260mA, PDIP-8/SOIC-8; ki_keywords: Oscillating Gate Driver; ki_fp_filters: SOIC*3.9x4.9mm*P1.27mm* DIP*W7.62mm*; Datasheet: https://www.infineon.com/dgdl/ir25603.pdf?fileId=5546d462533600a4015355c9e46716ef; Description_: Self-Oscillating Half-Bridge Driver, 600V, 180/260mA, PDIP-8/SOIC-8
pins: 1 VCC, 2 RT, 3 CT, 4 COM, 5 LO, 6 VS, 7 HO, 8 VB

## IR25604S
designator *  value IR25604S  Reference: U
High and Low Side Driver, 600V, 200/350mA, SOIC-8; ki_keywords: Gate Driver; ki_fp_filters: SOIC*3.9x4.9mm*P1.27mm*; Footprint: Package_SO:SOIC-8_3.9x4.9mm_P1.27mm; Datasheet: https://www.infineon.com/dgdl/ir25604.pdf?fileId=5546d462533600a4015355c9f1ca16f1; Description_: High and Low Side Driver, 600V, 200/350mA, SOIC-8
pins: 1 VCC, 2 HIN, 3 LIN, 4 COM, 5 LO, 6 VS, 7 HO, 8 VB